# EAGLE library part DW01A (library micwl)
DW10A Lithium-Ion Battery protection IC
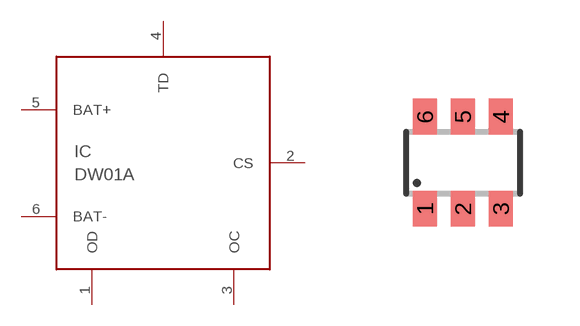
[diagram p2: symbol with the pads of SOT23-6; footprint SOT23-6]

Designator prefix IC

## DW01A  [SOT23-6]
1  OD  out
2  CS  pas
3  OC  out
4  TD  pas
5  BAT+  pwr
6  BAT-  pwr

## Footprint SOT23-6 (pad centres in mm)
Small Outline Transistor 6 lead
smd 0.6 x 0.9: 1 -0.95,-1.15; 2 0,-1.15; 3 0.95,-1.15; 4 0.95,1.15; 5 0,1.15; 6 -0.95,1.15